# EAGLE library part TLC082DGN (library op-amp)
BiMOS OP-AMP - PowerPAD Package Single Supply
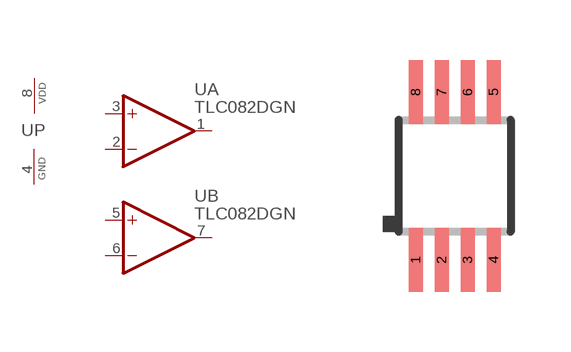
[diagram p10: symbol with the pads of MSOP08-PP; footprint MSOP08-PP]

Designator prefix U; gates A=OPAMP_NV B=OPAMP_NV P=PWRN_VDDGND

## TLC082DGN  [MSOP08-PP]
1  A:OUT  out
2  A:-IN  in
3  A:+IN  in
4  P:GND  pwr
5  B:+IN  in
6  B:-IN  in
7  B:OUT  out
8  P:VDD  pwr

## Footprint MSOP08-PP (pad centres in mm)
MSOP 8 - PowerPAD pitch 0.65 mm, DGN package Texas Instruments
smd 0.35 x 1.6: 1 -0.975,-2.1; 2 -0.325,-2.1; 3 0.325,-2.1; 4 0.975,-2.1; 5 0.975,2.1; 6 0.325,2.1; 7 -0.325,2.1; 8 -0.975,2.1